# Altium integrated library Dallas Peripheral Lock Circuit.IntLib: 8 symbols
Pins are listed as number, name and electrical type; pins without a type are passive.

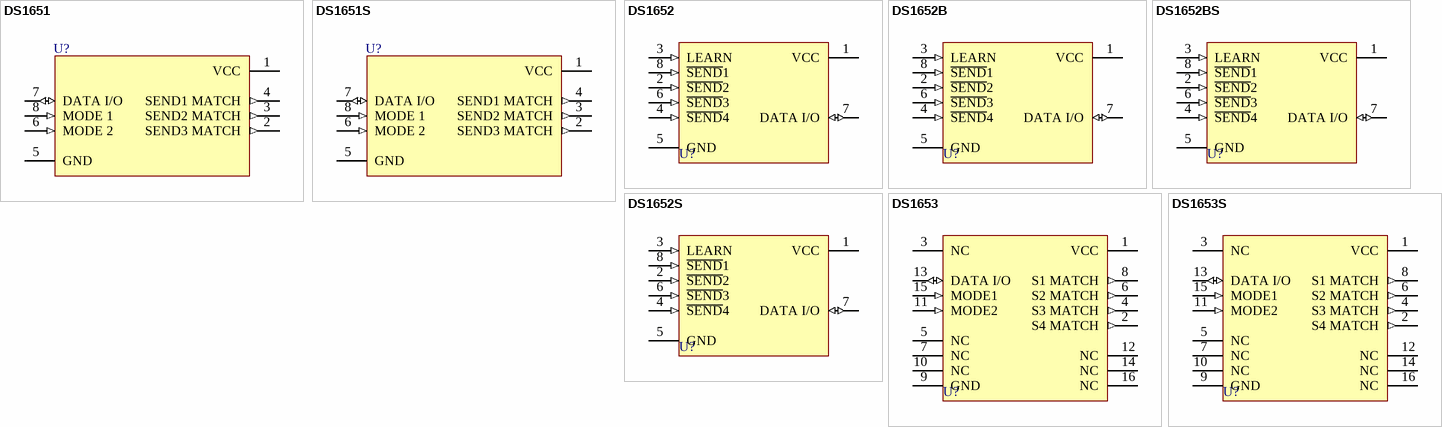
[diagram p0: symbols DS1651 to DS1653S]

## DS1651
designator U?
3-Code Lock; PackageDocument: 1999; Published: 13-Oct-2000; LatestRevisionDate: 06-Jun-2005; LatestRevisionNote: Stylized 3D Model Added.; DatasheetDocument: 19-Apr-1993; PackageReference: DIP8; Publisher: Altium Limited; ComponentLink1Description: Manufacturer Link; ComponentLink1URL: http://www.maxim-ic.com/
footprint DIP8 (DIP; 8 Leads; Row Spacing 7.62 mm; Pitch 2.54 mm)
3D model DIP8 (DIP; 8 Leads; Row Spacing 7.62 mm; Pitch 2.54 mm)
pins: 1 VCC (power), 2 SEND3 MATCH (out), 3 SEND2 MATCH (out), 4 SEND1 MATCH (out), 5 GND (power), 6 MODE 2 (in), 7 DATA I/O (io), 8 MODE 1 (in)

## DS1651S
designator U?
3-Code Lock; PackageDocument: 1994; Published: 13-Oct-2000; LatestRevisionDate: 06-Jun-2005; LatestRevisionNote: Stylized 3D Model Added.; DatasheetDocument: 19-Apr-1993; PackageReference: SOIC8WA; Publisher: Altium Limited; ComponentLink1Description: Manufacturer Link; ComponentLink1URL: http://www.maxim-ic.com/
footprint SOIC8WA (Small Outline; 8 Leads; Body Width 5.3 mm; Pitch 1.27 mm)
12/04/2005 SOIC8WA (Small Outline; 8 Leads; Body Width 5.3 mm; Pitch 1.27 mm)
pins: 1 VCC (power), 2 SEND3 MATCH (out), 3 SEND2 MATCH (out), 4 SEND1 MATCH (out), 5 GND (power), 6 MODE 2 (in), 7 DATA I/O (io), 8 MODE 1 (in)

## DS1652
designator U?
Key Match Memory System; PackageDocument: 1999; Published: 13-Oct-2000; LatestRevisionDate: 06-Jun-2005; LatestRevisionNote: Stylized 3D Model Added.; DatasheetDocument: 19-Apr-1993; PackageReference: DIP8; Publisher: Altium Limited; ComponentLink1Description: Manufacturer Link; ComponentLink1URL: http://www.maxim-ic.com/
footprint DIP8 (DIP; 8 Leads; Row Spacing 7.62 mm; Pitch 2.54 mm)
3D model DIP8 (DIP; 8 Leads; Row Spacing 7.62 mm; Pitch 2.54 mm)
pins: 1 VCC (power), 2 ~{SEND}2 (in), 3 LEARN (in), 4 ~{SEND}4 (in), 5 GND (power), 6 ~{SEND}3 (in), 7 DATA I/O (io), 8 ~{SEND}1 (in)

## DS1652B
designator U?
Code Memory Key; PackageDocument: 1999; Published: 13-Oct-2000; LatestRevisionDate: 06-Jun-2005; LatestRevisionNote: Stylized 3D Model Added.; DatasheetDocument: 19-Apr-1993; PackageReference: DIP8; Publisher: Altium Limited; ComponentLink1Description: Manufacturer Link; ComponentLink1URL: http://www.maxim-ic.com/
footprint DIP8 (DIP; 8 Leads; Row Spacing 7.62 mm; Pitch 2.54 mm)
3D model DIP8 (DIP; 8 Leads; Row Spacing 7.62 mm; Pitch 2.54 mm)
pins: 1 VCC (power), 2 ~{SEND}2 (in), 3 LEARN (in), 4 ~{SEND}4 (in), 5 GND (power), 6 ~{SEND}3 (in), 7 DATA I/O (io), 8 ~{SEND}1 (in)

## DS1652BS
designator U?
Code Memory Key; PackageDocument: 1994; Published: 13-Oct-2000; LatestRevisionDate: 06-Jun-2005; LatestRevisionNote: Stylized 3D Model Added.; DatasheetDocument: 19-Apr-1993; PackageReference: SOIC8WA; Publisher: Altium Limited; ComponentLink1Description: Manufacturer Link; ComponentLink1URL: http://www.maxim-ic.com/
footprint SOIC8WA (Small Outline; 8 Leads; Body Width 5.3 mm; Pitch 1.27 mm)
3D model SOIC8WA (Small Outline; 8 Leads; Body Width 5.3 mm; Pitch 1.27 mm)
pins: 1 VCC (power), 2 ~{SEND}2 (in), 3 LEARN (in), 4 ~{SEND}4 (in), 5 GND (power), 6 ~{SEND}3 (in), 7 DATA I/O (io), 8 ~{SEND}1 (in)

## DS1652S
designator U?
Key Match Memory System; PackageDocument: 1994; Published: 13-Oct-2000; LatestRevisionDate: 06-Jun-2005; LatestRevisionNote: Stylized 3D Model Added.; DatasheetDocument: 19-Apr-1993; PackageReference: SOIC8WA; Publisher: Altium Limited; ComponentLink1Description: Manufacturer Link; ComponentLink1URL: http://www.maxim-ic.com/
footprint SOIC8WA (Small Outline; 8 Leads; Body Width 5.3 mm; Pitch 1.27 mm)
3D model SOIC8WA (Small Outline; 8 Leads; Body Width 5.3 mm; Pitch 1.27 mm)
pins: 1 VCC (power), 2 ~{SEND}2 (in), 3 LEARN (in), 4 ~{SEND}4 (in), 5 GND (power), 6 ~{SEND}3 (in), 7 DATA I/O (io), 8 ~{SEND}1 (in)

## DS1653
designator U?
4-Code Lock; PackageDocument: 1999; Note: Pin numbers 3, 5, 7, 10, 12, 14 and 16 are Not Connected (NC); Published: 13-Oct-2000; LatestRevisionDate: 06-Jun-2005; LatestRevisionNote: Stylized 3D Model Added.; DatasheetDocument: 19-Apr-1993; PackageReference: DIP16; Publisher: Altium Limited; ComponentLink1Description: Manufacturer Link; ComponentLink1URL: http://www.maxim-ic.com/
footprint DIP16 (DIP; 16 Leads; Row Spacing 7.62 mm; Pitch 2.54 mm)
3D model DIP16 (DIP; 16 Leads; Row Spacing 7.62 mm; Pitch 2.54 mm)
pins: 1 VCC (power), 2 S4 MATCH (out), 3 NC, 4 S3 MATCH (out), 5 NC, 6 S2 MATCH (out), 7 NC, 8 S1 MATCH (out), 9 GND (power), 10 NC, 11 MODE2 (in), 12 NC, 13 DATA I/O (io), 14 NC, 15 MODE1 (in), 16 NC

## DS1653S
designator U?
4-Code Lock; PackageDocument: 1994; Note: Pin numbers 3, 5, 7, 10, 12, 14 and 16 are Not Connected (NC); Published: 13-Oct-2000; LatestRevisionDate: 06-Jun-2005; LatestRevisionNote: Stylized 3D Model Added.; DatasheetDocument: 19-Apr-1993; PackageReference: SOIC16WA; Publisher: Altium Limited; ComponentLink1Description: Manufacturer Link; ComponentLink1URL: http://www.maxim-ic.com/
footprint SOIC16WA (Small Outline; 16 Leads; Body Width 7.5 mm; Pitch 1.27 mm)
3D model SOIC16WA (Small Outline; 16 Leads; Body Width 7.5 mm; Pitch 1.27 mm)
pins: 1 VCC (power), 2 S4 MATCH (out), 3 NC, 4 S3 MATCH (out), 5 NC, 6 S2 MATCH (out), 7 NC, 8 S1 MATCH (out), 9 GND (power), 10 NC, 11 MODE2 (in), 12 NC, 13 DATA I/O (io), 14 NC, 15 MODE1 (in), 16 NC